# Altium schematic symbol library INDUCTORS.SchLib: 1 symbol
Pins are listed as number, name and electrical type; pins without a type are passive.

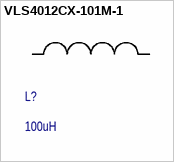
[diagram p0: symbol VLS4012CX-101M-1]

## VLS4012CX-101M-1
designator L?, comment 100uH
Inductor SMD 100uH 0.48A; Part: VLS4012CX-101M-1
footprint VLS4012CX-101M-1
pins: 1, 2